# Altium footprint library Bemine-mc60_PCB.PcbLib: 18 footprints (part 2 of 2)
Each footprint in its own frame and in the unit in brackets; x right, y up, seen from the top. Pads: shape width x height; smd on the part's side, far side on the other; paste and mask are expansions set on the pad; w line width, h text height; cw(c..) or ccw(c..) is an arc to the next point about the centre after c.
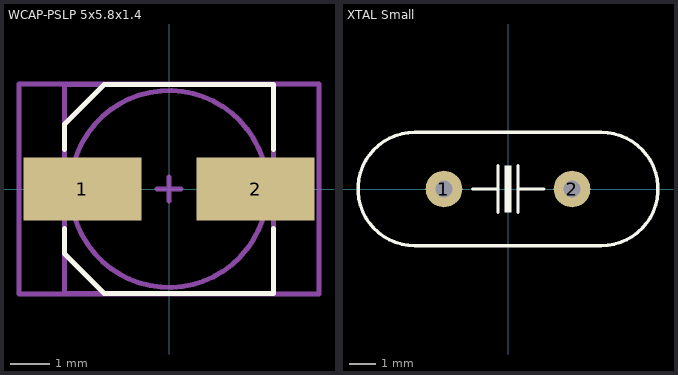
[diagram p1: the footprints below, top view; thin cyan lines are the x and y axes]

## WCAP-PSLP 5x5.8x1.4 [mm]
pads (2):
  rect 3x1.6 smd: 1(-2.2,0) 2(2.2,0)
Top Overlay:
  lines w0.127: -2.65,-1 -2.65,-1.65 -1.65,-2.65 2.65,-2.65 2.65,-1 ; -2.65,1 -2.65,1.65 -1.65,2.65 2.65,2.65 2.65,1
Mechanical 13:
  circle w0.127: c0,0 r2.5
  lines w0.127: -2.65,-2.65 -2.65,2.65 2.65,2.65 2.65,-2.65 -2.65,-2.65
Mechanical 15:
  lines w0.127: -0.3,0 0.3,0 ; 0,-0.3 0,0.3 ; -3.81,-2.667 -3.81,2.667 3.81,2.667 3.81,-2.667 -3.81,-2.667
3D body "5x5.8x1.4.stp": height -0.4, standoff -6.2, extent -3,-2.65 3,2.65

## XTAL Small [mil]
pads (2):
  round 55 hole 25: 1(-96.06,0) 2(96.06,0)
Top Overlay:
  rectangle: -5,-35 5,35
  lines w5: -53,0 -15,0 ; -15,-35 -15,35 ; 15,-35 15,35 ; 15,0 54,0 ; -140,-85 cw(c-140,0) -140,85 140,85 cw(c140,0) 140,-85 -140,-85
3D body "Crystal-3.8mm.STEP": height 140.16, standoff -78.74, extent -226.38,-88.58 226.38,88.58